# EAGLE library part NRF52833-QDAA-R (library nRF52833-QDAA-R)
RF System on a Chip - SoC nRF52833-QDAA QFN 40L 5x5 Source: Datasheet <https://infocenter.nordicsemi.com/pdf/nRF52833_PS_v1.3.pdf>
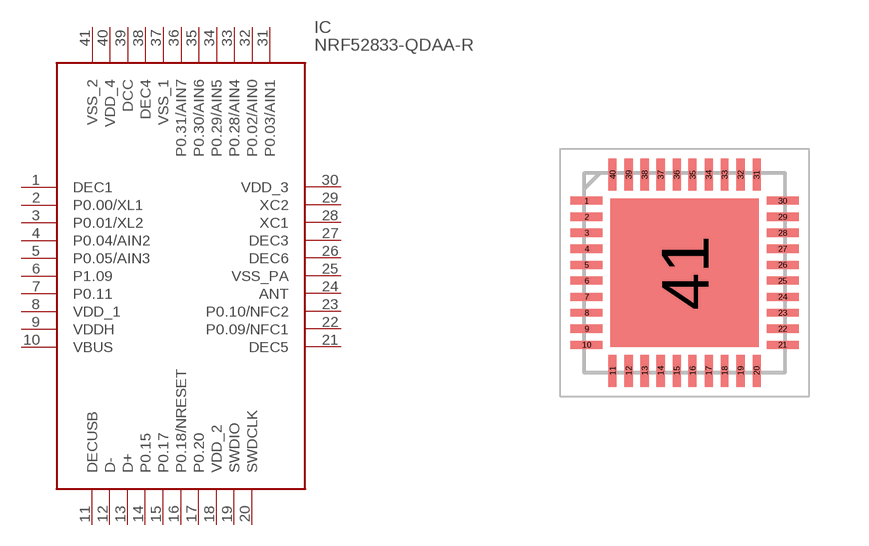
[diagram p0: symbol with the pads of QFN40P500X500X90-41N; footprint QFN40P500X500X90-41N]

Designator prefix IC

## NRF52833-QDAA-R (Description: RF System on a Chip - SoC nRF52833-QDAA QFN 40L 5x5; Height: 0.9mm; Manufacturer_Name: Nordic Semiconductor; Manufacturer_Part_Number: nRF52833-QDAA-R; Mouser_Part_Number: 949-NRF52833-QDAA-R; Mouser_Price-Stock: https://www.mouser.co.uk/ProductDetail/Nordic-Semiconductor/nRF52833-QDAA-R?qs=xZ%2FP%252Ba9zWqYrk%252Bfy26NOZQ%3D%3D)  [QFN40P500X500X90-41N]
1  DEC1
2  P0.00/XL1
3  P0.01/XL2
4  P0.04/AIN2
5  P0.05/AIN3
6  P1.09
7  P0.11
8  VDD_1
9  VDDH
10  VBUS
11  DECUSB
12  D-
13  D+
14  P0.15
15  P0.17
16  P0.18/NRESET
17  P0.20
18  VDD_2
19  SWDIO
20  SWDCLK
21  DEC5
22  P0.09/NFC1
23  P0.10/NFC2
24  ANT
25  VSS_PA
26  DEC6
27  DEC3
28  XC1
29  XC2
30  VDD_3
31  P0.03/AIN1
32  P0.02/AIN0
33  P0.28/AIN4
34  P0.29/AIN5
35  P0.30/AIN6
36  P0.31/AIN7
37  VSS_1
38  DEC4
39  DCC
40  VDD_4
41  VSS_2

## Footprint QFN40P500X500X90-41N (pad centres in mm)
40-Pin QFN
smd 0.8 x 0.2: 1 -2.45,1.8; 2 -2.45,1.4; 3 -2.45,1; 4 -2.45,0.6; 5 -2.45,0.2; 6 -2.45,-0.2; 7 -2.45,-0.6; 8 -2.45,-1; 9 -2.45,-1.4; 10 -2.45,-1.8; 21 2.45,-1.8; 22 2.45,-1.4; 23 2.45,-1; 24 2.45,-0.6; 25 2.45,-0.2; 26 2.45,0.2; 27 2.45,0.6; 28 2.45,1; 29 2.45,1.4; 30 2.45,1.8
smd 0.2 x 0.8: 11 -1.8,-2.45; 12 -1.4,-2.45; 13 -1,-2.45; 14 -0.6,-2.45; 15 -0.2,-2.45; 16 0.2,-2.45; 17 0.6,-2.45; 18 1,-2.45; 19 1.4,-2.45; 20 1.8,-2.45; 31 1.8,2.45; 32 1.4,2.45; 33 1,2.45; 34 0.6,2.45; 35 0.2,2.45; 36 -0.2,2.45; 37 -0.6,2.45; 38 -1,2.45; 39 -1.4,2.45; 40 -1.8,2.45
smd 3.7 x 3.7: 41 0,0